# Altium footprint library fpr.PcbLib: 42 footprints (part 2 of 3)
Each footprint in its own frame and in the unit in brackets; x right, y up, seen from the top. Pads: shape width x height; smd on the part's side, far side on the other; paste and mask are expansions set on the pad; w line width, h text height; cw(c..) or ccw(c..) is an arc to the next point about the centre after c.
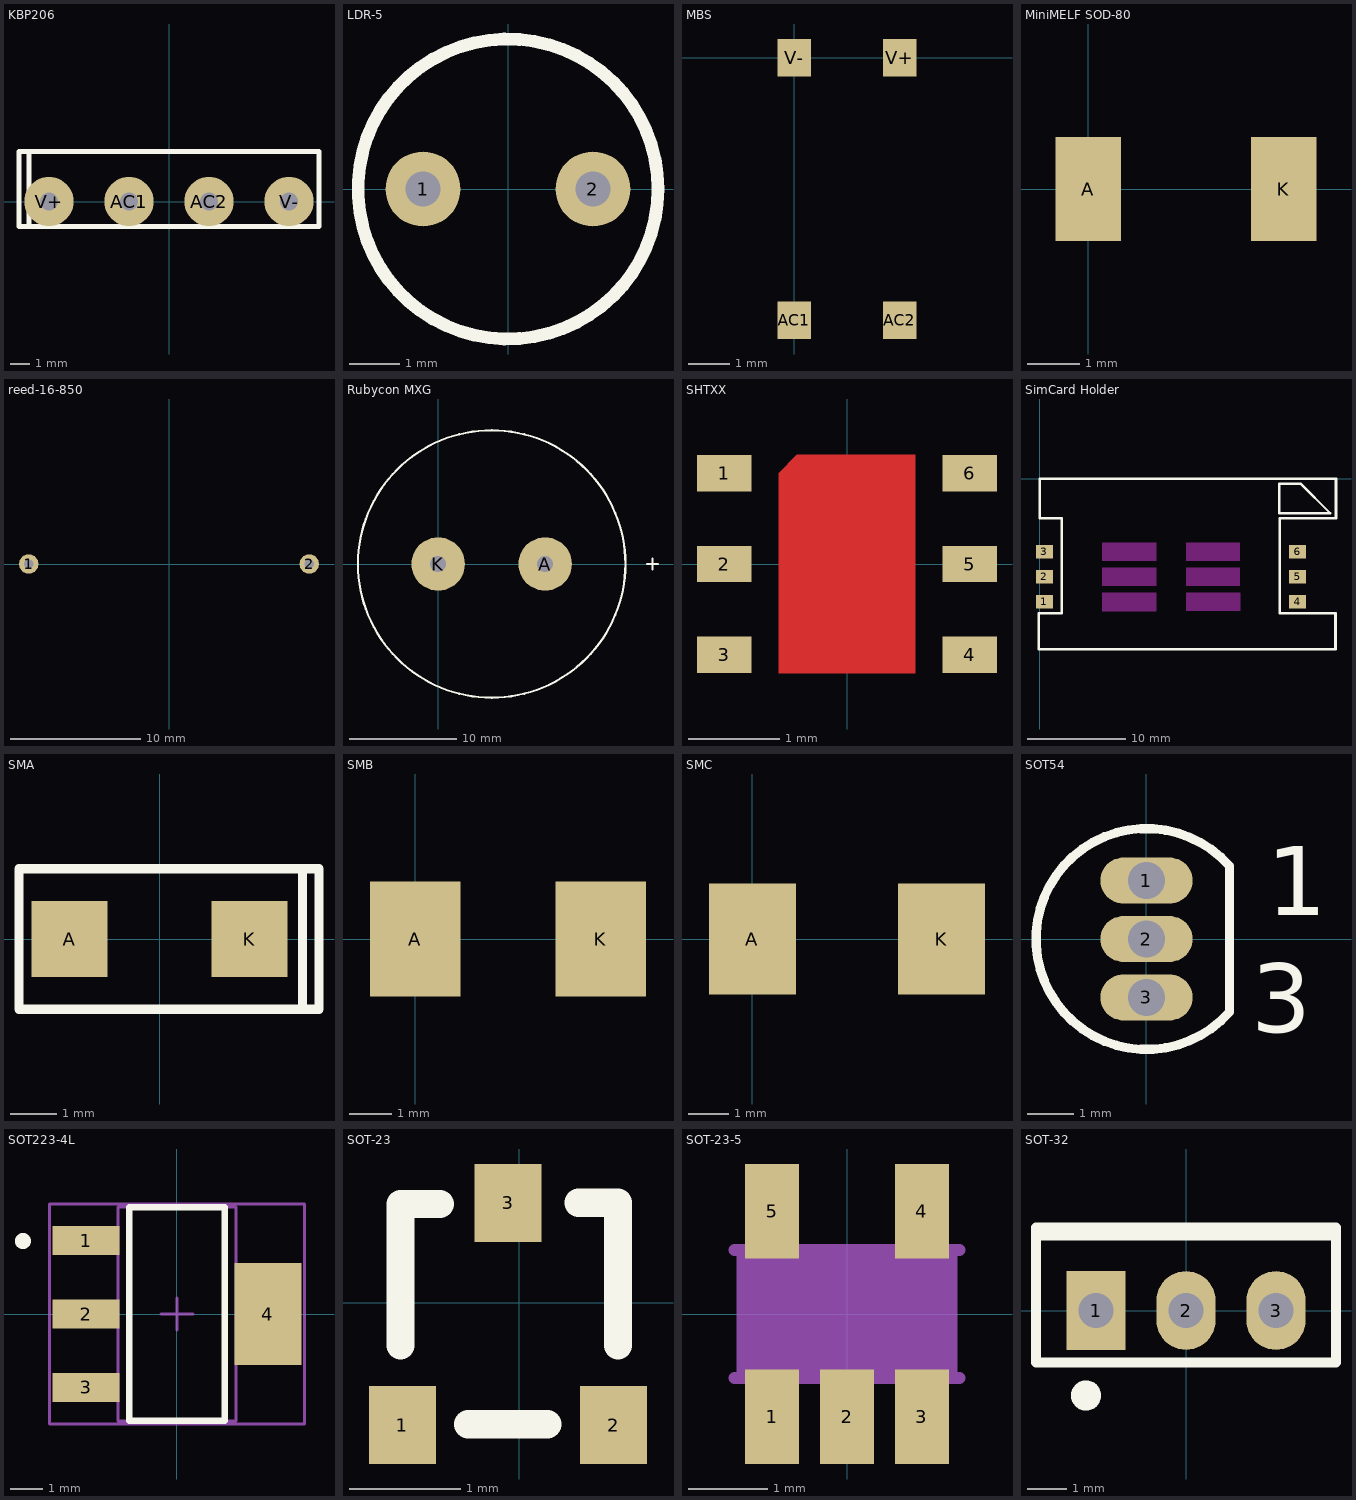
[diagram p1: the footprints below, top view; thin cyan lines are the x and y axes]

## KBP206 [mm]
pads (4):
  round 2.5 hole 0.9: AC1(-2.032,0) AC2(2.032,0) V+(-6.096,0) V-(6.096,0)
Top Overlay:
  lines w0.254: -7.112,-1.27 -7.112,2.54 ; -7.62,-1.27 -7.62,2.54 7.62,2.54 7.62,-1.27 -7.62,-1.27

## LDR-5 [mm] "5mm LDR"
height 4
pads (2):
  round 1.5 hole 0.7: 1(-1.7,0) 2(1.7,0)
Top Overlay:
  circle w0.254: c0,0 r3
3D body "LDR-5.STEP": height 4.1, standoff -2.5, extent -2.55,-2.15 2.55,2.15

## MBS [mm]
height 2.9
pads (4):
  rect 0.8x0.9 smd: AC1(0,-6.3) AC2(2.54,-6.3) V+(2.54,0) V-(0,0)
3D body "User Library-TO-269AA_jam.step": height 2.7, standoff 0, extent -1.205,-6.695 3.745,0.345

## MiniMELF SOD-80 [mm] "MiniMELF SOD-80"
height 1.6
pads (2):
  rect 1.25x2 smd: A(0,0) K(3.75,0)
3D body "User Library-minimelf.step": height 1.4, standoff 0, extent 0.155,-0.7 3.655,0.7

## reed-16-850 [mm]
pads (2):
  round 1.5 hole 0.7: 1(-10.795,0) 2(10.795,0)
3D body "reed switch.STEP": height 2.91, standoff -1.85, extent -11.12,-1.26 11.12,1.26

## Rubycon MXG [mm]
pads (2):
  round 5 hole 1.5: A(10,0) K(0,0)
Top Overlay:
  circle w0.2: c5,0 r12.5
  lines w0.2: 19.532,0 20.548,0 ; 20.04,-0.508 20.04,0.508

## SHTXX [mm]
pads (6):
  rect 0.6x0.4 smd: 1(-1.35,1) 2(-1.35,0) 3(-1.35,-1) 4(1.35,-1) 5(1.35,0) 6(1.35,1)
Top Layer:
  region: -0.75,-1.2 0.75,-1.2 0.75,1.2 -0.55,1.2 -0.75,1
3D body "Sensirion_Humidity_SHT2x-STEP-file.STEP": height 1.1, standoff 0, extent -1.5,-1.5 1.5,1.5

## SimCard Holder [mm]
pads (6):
  rect 1.7x1.4 smd: 1(0.45,-12.48) 2(0.45,-9.94) 3(0.45,-7.4) 4(26.1,-12.48) 5(26.1,-9.94) 6(26.1,-7.4)
Top Layer keep-out:
  rectangle: 14.797,-13.433 20.3,-11.53
  rectangle: 14.803,-10.89 20.295,-8.988
  rectangle: 14.805,-8.345 20.295,-6.445
  rectangle: 6.302,-13.437 11.8,-11.538
  rectangle: 6.298,-10.89 11.8,-8.988
  rectangle: 6.299,-8.35 11.8,-6.452
Top Overlay:
  lines w0.254: -0.127,-17.272 -0.127,-13.614 2.184,-13.614 2.184,-4.013 0,-4.013 0,-0.025 29.997,-0.025 29.997,-4.013 24.308,-4.013 24.308,-13.614 29.947,-13.614 29.947,-17.272 -0.127,-17.272 ; 24.257,-3.531 29.413,-3.531 29.413,-3.505 26.416,-0.508 24.257,-0.508 24.257,-3.531
3D body "AVX Interconnect-9162-300.STEP": height 2.75, standoff 0.15, extent 0,-17.2 30,0

## SMA [mm]
pads (2):
  rect 1.65x1.65 smd: A(-1.95,0) K(1.95,0)
Top Overlay:
  lines w0.2: 3.099,-1.524 3.099,1.524 ; -3.048,-1.524 3.454,-1.524 3.454,1.524 -3.048,1.524 -3.048,0.762 -3.048,-0.259 -3.048,-1.524
3D body "User Library-DIOM5528X26.step": height 2.6, standoff 0.03, extent -2.75,-1.4 2.75,1.4

## SMB [mil]
pads (2):
  rect 85x108 smd: A(0,0) K(174,0)

## SMC [mil]
pads (2):
  rect 85x108 smd: A(0,0) K(185.04,0)

## SOT54 [mm] "TO, Flat Index; 3 In-Line, Axial Leads; Body Dia. 4.6mm; Leads 0.48 x 0.45 mm (max)"
height 5.2
pads (3):
  oval 2x1 hole 0.8: 1(0,1.27) 2(0,0) 3(0,-1.27)
Top Overlay:
  lines w0.2: 1.8,-1.587 1.8,1.587 ; 1.8,-1.587 cw(c0,0) 1.8,1.587
  text "1" at 2.616,0.52 h1.5
  text "3" at 2.275,-2.02 h1.5
3D body "User Library-TO-92A.step": height 8, standoff -3, extent -2.406,-2.4 1.524,2.4

## SOT223-4L [mm] "SOT223, 4-Leads, Body 6.5x3.5mm, Pitch 2.3mm, Lead Span 7mm, IPC High Density"
height 1.8
pads (4):
  rect 2.1x0.9 smd: 1(-2.85,2.3) 2(-2.85,0) 3(-2.85,-2.3)
  rect 2.1x3.2 smd: 4(2.85,0)
Top Overlay:
  circle w0.25: c-4.826,2.286 r0.125
  lines w0.2: -1.5,-3.35 1.5,-3.35 1.5,3.35 -1.5,3.35 -1.5,-3.35
Mechanical 13:
  lines w0.1: -1.85,-3.35 1.85,-3.35 1.85,3.35 -1.85,3.35 -1.85,-3.35
Mechanical 15:
  lines w0.1: -0.5,0 0.5,0 ; 0,-0.5 0,0.5 ; -4,-3.45 4,-3.45 4,3.45 -4,3.45 -4,-3.45
3D body "User Library-SOT223-3.step": height 1.7, standoff 0, extent -3.5,-3.25 3.5,3.25

## SOT-23 [mm]
height 1.1
pads (3):
  rect 0.6x0.7 smd: 1(-1.05,-1.1) 2(0.85,-1.1) 3(-0.1,0.9)
Top Overlay:
  lines w0.254: -1.067,-0.381 -1.067,0.889 -0.711,0.889 ; -0.457,-1.092 0.254,-1.092 ; 0.533,0.902 0.889,0.902 0.889,-0.381
3D body "CircuitWorks-SOT-23.step": height 1.1, standoff 0, extent -1.6,-1.35 1.4,1.15

## SOT-23-5 [mm]
pads (5):
  rect 0.69x1.2 smd: 1(-0.95,-1.3) 2(0,-1.3) 3(0.95,-1.3) 4(0.95,1.3) 5(-0.95,1.3)
Mechanical 4:
  region: -1.202,1.5 -0.7,1.5 -0.7,0.852 -1.202,0.852
  region: 0.7,1.5 1.2,1.5 1.2,0.85 0.7,0.85
  region: 0.701,-0.85 1.2,-0.85 1.2,-1.502 0.701,-1.502
  region: -0.25,-0.85 0.25,-0.85 0.25,-1.501 -0.25,-1.501
  region: -1.201,-0.85 -0.7,-0.85 -0.7,-1.502 -1.201,-1.502
  region: -1.202,1.5 -0.7,1.5 -0.7,0.852 -1.202,0.852
  region: 0.7,1.5 1.2,1.5 1.2,0.85 0.7,0.85
  region: 0.701,-0.85 1.2,-0.85 1.2,-1.502 0.701,-1.502
  region: -0.25,-0.85 0.25,-0.85 0.25,-1.501 -0.25,-1.501
  region: -1.201,-0.85 -0.7,-0.85 -0.7,-1.502 -1.201,-1.502
  lines w0.152: -1.422,-0.81 1.422,-0.81 -1.422,-0.81 ; -1.422,0.81 1.422,0.81 -1.422,0.81
Mechanical 16:
  region: -1.398,0.762 1.397,0.762 1.397,-0.763 -1.398,-0.763
3D body: height 4.11, standoff -4.11, extent 0.2,0 0.2,0
3D body "SOT23-5.STEP": height 1.43, standoff -0.02, extent -1.45,-1.4 1.45,1.4

## SOT-32 [mm] "TO-126 SOT-32"
pads (3):
  rect 1.5x2 hole 0.9: 1(-2.286,0)
  oval 1.5x2 hole 0.9: 2(0,0) 3(2.286,0)
Top Overlay:
  circle w0.508: c-2.54,-2.159 r0.127
  lines w0.254: -3.81,2.032 -3.81,-1.321 3.81,-1.321 3.81,2.032 ; -3.81,1.905 3.81,1.905 3.81,2.108 -3.81,2.108 -3.81,1.905
3D body "User Library-TO-126 (SOT32) Grey PCB.step": height 13.19, standoff -3.54, extent -3.759,-0.94 3.841,1.61